# EAGLE library part WE-TVS_82402375 (library Wurth_Elektronik_Passive_rev15b)
TVS Diode Standard Series Characteristics Operating temperature: –55 ºC to +85 °C for 824 023 x; –55 ºC to +125 °C for 824 021/824 022 Very low clamping voltage High ESD withstand voltage Unidirectional or bidirectional protection RoHS, REACH and free of halogens Applications DC power supply Headsets and accessories PDAs Digital cameras MP3-Player Touch Panels ESD protection in accordance with EN 61000-4-2 – 8 kV contact discharge – 15 kV air discharge <http://katalog.we-online.de/media/images/eisos/VarTVS_highspeed_pf2.jpg.jpg> Details see: http://katalog.we-online.de/en/pbs/WE-TVS_High_Speed/824021? Updated by Dan Xu 2014-07-11 2014 (C) Wurth Elektronik
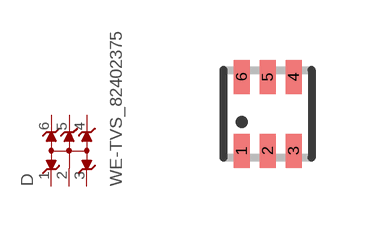
[diagram p50: symbol with the pads of WE-TVS_SC70-6L; footprint WE-TVS_SC70-6L]

Designator prefix D

## WE-TVS_82402375  [WE-TVS_SC70-6L]
1  1  pas
2  GND  pwr
3  2  pas
4  3  pas
5  4  pas
6  5  pas

## Footprint WE-TVS_SC70-6L (pad centres in mm)
TVS Diode Array WE-TVS
smd 0.4 x 0.85: 1 -0.65,-0.925; 2 0,-0.925; 3 0.65,-0.925; 4 0.65,0.925; 5 0,0.925; 6 -0.65,0.925